# Altium schematic symbol library SCH - DRIVER - LED - TI TPS60250_RTE_16.SchLib: 1 symbol
Pins are listed as number, name and electrical type; pins without a type are passive.

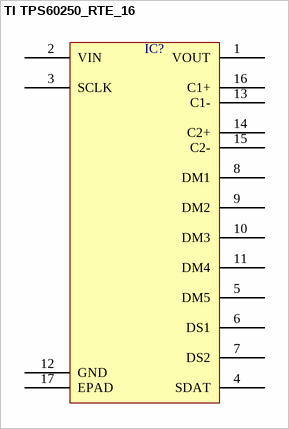
[diagram p0: symbol TI TPS60250_RTE_16]

## TI TPS60250_RTE_16
designator IC?  (value not drawn)
pins: 1 VOUT, 2 VIN, 3 SCLK, 4 SDAT, 5 DM5, 6 DS1, 7 DS2, 8 DM1, 9 DM2, 10 DM3, 11 DM4, 12 GND, 13 C1-, 14 C2+, 15 C2-, 16 C1+, 17 EPAD